# Altium schematic symbol library thermistor.SchLib: 1 symbol
Pins are listed as number, name and electrical type; pins without a type are passive.

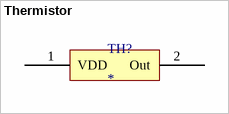
[diagram p0: symbol Thermistor]

## Thermistor
designator TH?
footprint HDR1X2H (Connector; Header; 2 Position; Right Angle)
footprint HDR1X2 (Connector; Header; 2 Position)
pins: 1 VDD, 2 Out